# Altium footprint library ebf_f103vet6 motor dev board_PCB封装_AD格式.PcbLib: 46 footprints (part 2 of 3)
Each footprint in its own frame and in the unit in brackets; x right, y up, seen from the top. Pads: shape width x height; smd on the part's side, far side on the other; paste and mask are expansions set on the pad; w line width, h text height; cw(c..) or ccw(c..) is an arc to the next point about the centre after c.
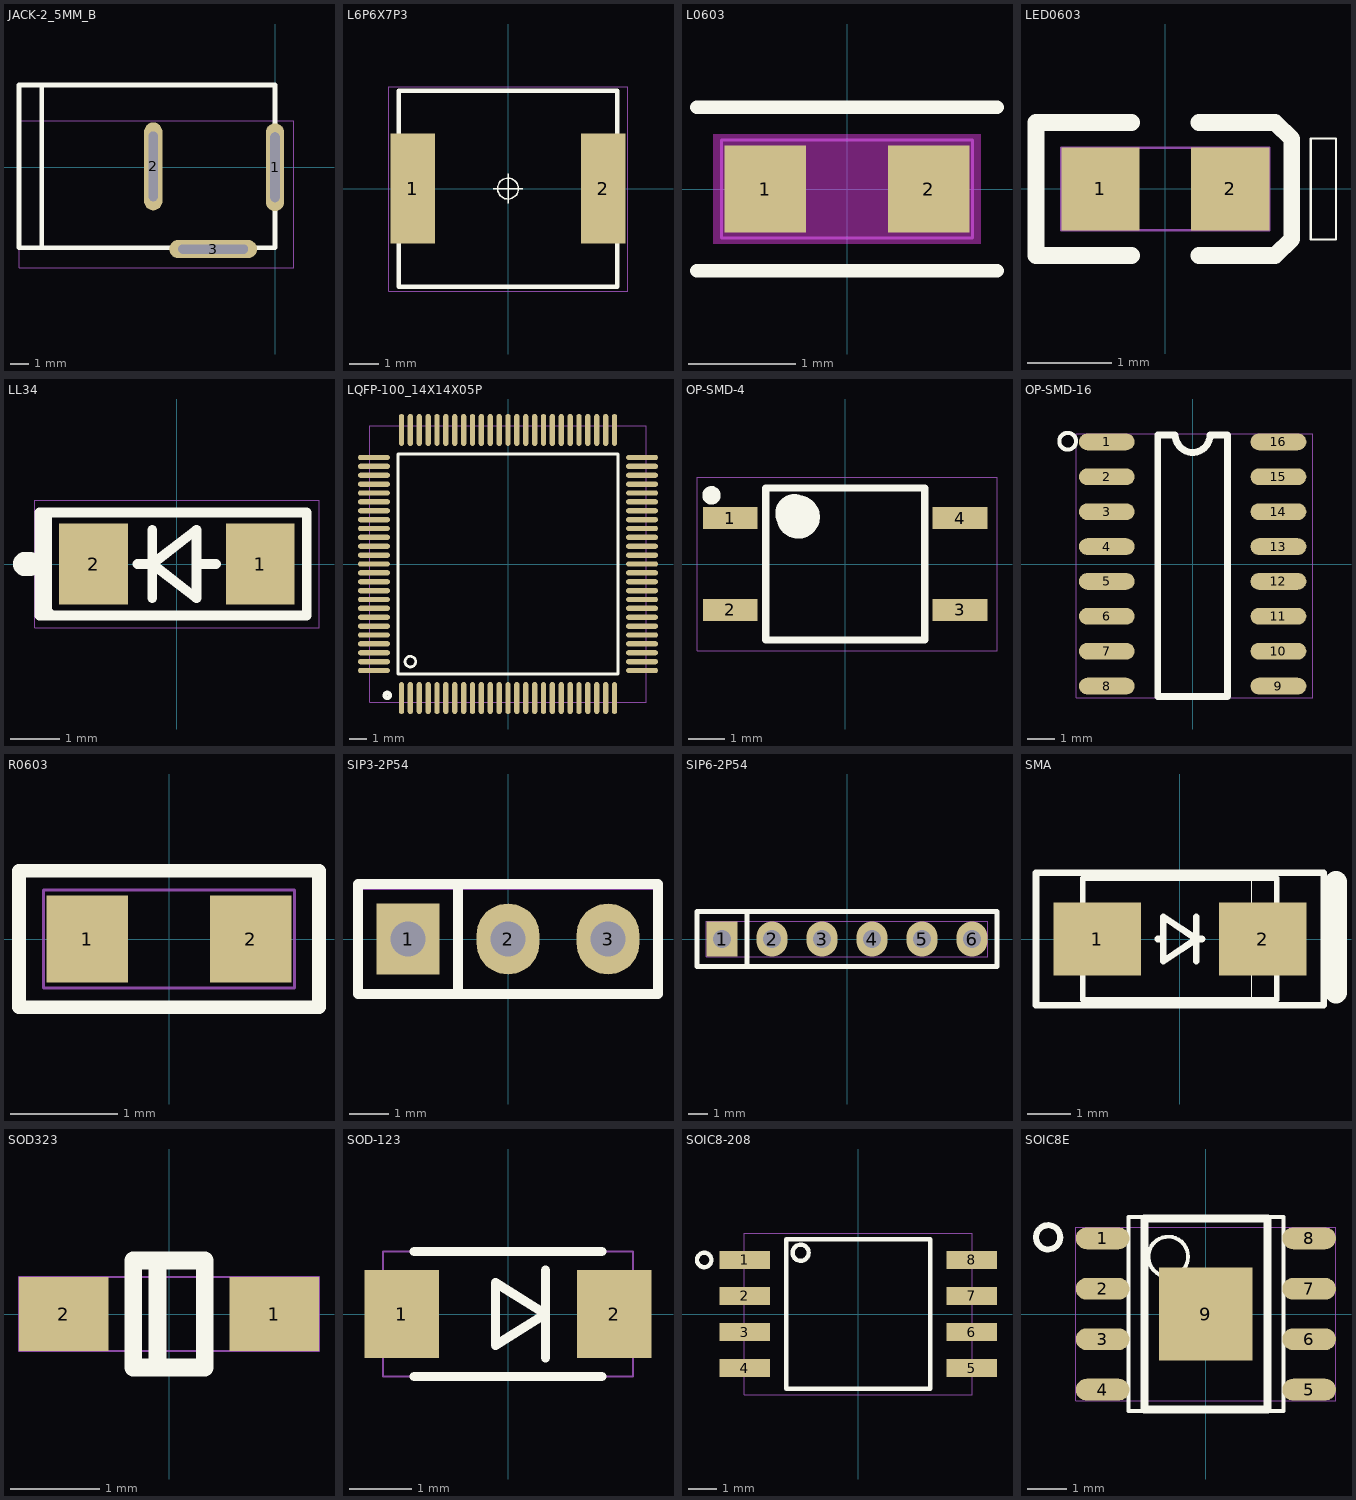
[diagram p1: the footprints below, top view; thin cyan lines are the x and y axes]

## JACK-2_5MM_B [mm]
pads (3):
  oval 1x4.81 / inner oval 1x4.81 / far side oval 2x4.81 hole 0.5 slot 3.81 at 90 deg mask+0.05: 1(0,0) 2(-6.659,0.046)
  oval 4.81x1 / inner oval 4.81x1 / far side oval 4.81x2 hole 0.5 slot 3.81 at 0 deg mask+0.05: 3(-3.383,-4.475)
Top Overlay:
  lines w0.254: -12.755,-4.348 -12.755,4.501 ; -14,-4.399 0,-4.399 0,4.501 -14,4.501 -14,-4.399
Top Assembly:
  text "JACK1" at -2.446,-0.635 h1.27
Mechanical 20:
  lines w0.025: -14,-5.491 1.016,-5.491 1.016,2.535 -14,2.535 -14,-5.491

## L6P6X7P3 [mil]
pads (2):
  rect 59.06x145.67 smd mask+1.97: 1(-126,0) 2(126,0)
Top Overlay:
  circle w1.97: c0,0 r13.78
  lines w1.97: -19.69,0 19.69,0 ; 0,-19.69 0,19.69
  lines w6: -145,-130 145,-130 145,130 -145,130 -145,-130
Top Assembly:
  text "L6" at -32.5,-25 h50
Mechanical 20:
  lines w1: -158,-136 159,-136 159,135 -158,135 -158,-136

## L0603 [mil]
pads (2):
  rect 30x32 smd mask+2.5: 1(-30,0) 2(30,0)
Top Layer keep-out:
  region: -49,-20 -49,20 49,20 49,-20
Top Overlay:
  lines w5: -55,-30 55,-30 ; -55,30 55,30
Top Assembly:
  text "L2" at -33.69,-25 h50
Mechanical 20:
  lines w1: -46,-18 -46,18 46,18 46,-18 -46,-18

## LED0603 [mil]
pads (2):
  rect 36.61x38.58 smd mask+1.97: 1(-30.31,0) 2(30.32,0)
Top Overlay:
  lines w1: 67.91,-23.62 67.91,23.62 79.73,23.62 79.73,-23.62 67.91,-23.62
  lines w7.87: -15.75,-31.1 -60.43,-31.1 -60.43,31.1 -15.75,31.1 ; 15.75,-31.1 51.18,-31.1 59.06,-23.5 59.06,23.5 51.18,31.1 15.75,31.1
Top Assembly:
  text "D6" at -37.73,-25 h50
Mechanical 20:
  lines w1: -48.62,-19.29 48.62,-19.29 48.62,19.29 -48.62,19.29 -48.62,-19.29

## LL34 [mm]
pads (2):
  rect 1.4x1.65 smd: 1(1.7,0) 2(-1.7,0)
Top Overlay:
  circle w0.25: c-3,0 r0.12
  circle w0.25: c-3.1,0 r0.12
  lines w0.025: -0.8,0 -0.5,0 ; -0.5,-0.7 -0.5,0.7 ; 0.4,0 0.8,0 ; -0.5,0 0.4,-0.7 0.4,0.7 -0.5,0 ; -2.65,-1.05 -2.65,1.05 2.65,1.05 2.65,-1.05 -2.65,-1.05
  lines w0.2: -2.6,-1 -2.6,-1.05 -2.8,-1.05 -2.8,1.05 -2.65,1.05 ; -0.8,0 -0.5,0 ; -0.5,-0.7 -0.5,0.7 ; 0.4,0 0.8,0 ; -2.65,1.05 2.65,1.05 2.65,-1.05 -2.65,-1.05 -2.65,1.05 ; -0.5,0 0.4,-0.7 0.4,0.7 -0.5,0
Top Assembly:
  text "D25" at 1.554,0.635 h1.27
Mechanical 20:
  lines w0.025: -2.9,-1.3 2.9,-1.3 2.9,1.3 -2.9,1.3 -2.9,-1.3

## LQFP-100_14X14X05P [mm]
pads (100):
  oval 0.3x1.8 smd mask+0.05: 1(-6,-7.55) 2(-5.5,-7.55) 3(-5,-7.55) 4(-4.5,-7.55) 5(-4,-7.55) 6(-3.5,-7.55) 7(-3,-7.55) 8(-2.5,-7.55) 9(-2,-7.55) 10(-1.5,-7.55) 11(-1,-7.55) 12(-0.5,-7.55) 13(0,-7.55) 14(0.5,-7.55) 15(1,-7.55) 16(1.5,-7.55) 17(2,-7.55) 18(2.5,-7.55) 19(3,-7.55) 20(3.5,-7.55) 21(4,-7.55) 22(4.5,-7.55) 23(5,-7.55) 24(5.5,-7.55) 25(6,-7.55) 51(6,7.55) 52(5.5,7.55) 53(5,7.55) 54(4.5,7.55) 55(4,7.55) 56(3.5,7.55) 57(3,7.55) 58(2.5,7.55) 59(2,7.55) 60(1.5,7.55) 61(1,7.55) 62(0.5,7.55) 63(0,7.55) 64(-0.5,7.55) 65(-1,7.55) 66(-1.5,7.55) 67(-2,7.55) 68(-2.5,7.55) 69(-3,7.55) 70(-3.5,7.55) 71(-4,7.55) 72(-4.5,7.55) 73(-5,7.55) 74(-5.5,7.55) 75(-6,7.55)
  oval 1.8x0.3 smd mask+0.05: 26(7.55,-6) 27(7.55,-5.5) 28(7.55,-5) 29(7.55,-4.5) 30(7.55,-4) 31(7.55,-3.5) 32(7.55,-3) 33(7.55,-2.5) 34(7.55,-2) 35(7.55,-1.5) 36(7.55,-1) 37(7.55,-0.5) 38(7.55,0) 39(7.55,0.5) 40(7.55,1) 41(7.55,1.5) 42(7.55,2) 43(7.55,2.5) 44(7.55,3) 45(7.55,3.5) 46(7.55,4) 47(7.55,4.5) 48(7.55,5) 49(7.55,5.5) 50(7.55,6) 76(-7.55,6) 77(-7.55,5.5) 78(-7.55,5) 79(-7.55,4.5) 80(-7.55,4) 81(-7.55,3.5) 82(-7.55,3) 83(-7.55,2.5) 84(-7.55,2) 85(-7.55,1.5) 86(-7.55,1) 87(-7.55,0.5) 88(-7.55,0) 89(-7.55,-0.5) 90(-7.55,-1) 91(-7.55,-1.5) 92(-7.55,-2) 93(-7.55,-2.5) 94(-7.55,-3) 95(-7.55,-3.5) 96(-7.55,-4) 97(-7.55,-4.5) 98(-7.55,-5) 99(-7.55,-5.5) 100(-7.55,-6)
Top Overlay:
  circle w0.25: c-6.8,-7.4 r0.141
  circle w0.15: c-5.5,-5.5 r0.3
  lines w0.15: -6.2,-6.2 -6.2,6.2 6.2,6.2 6.2,-6.2 -6.2,-6.2
Top Assembly:
  text "U6" at 0.992,0.635 h1.27
Mechanical 20:
  lines w0.025: -7.8,-7.8 7.8,-7.8 7.8,7.8 -7.8,7.8 -7.8,-7.8

## OP-SMD-4 [mil]
pads (4):
  rect 59.84x24.02 smd: 1(-125.2,50) 2(-125.2,-50) 3(125.2,-50) 4(125.2,50)
Top Overlay:
  circle w19.69: c-55.12,55.12 r11.14
  circle w23.62: c-51.18,51.18 r11.81
  circle w9.84: c-145.67,74.8 r5.12
  lines w1: -86.61,-82.68 86.61,-82.68 86.61,82.68 -86.61,82.68 -86.61,-82.68
  lines w7.87: -86.61,-82.68 86.61,-82.68 86.61,82.68 -86.61,82.68 -86.61,-82.68
Top Assembly:
  text "OP5" at 63.8,25 h50
Mechanical 20:
  lines w1: -161.42,-94.49 -161.42,94.49 165.35,94.49 165.35,-94.49 -161.42,-94.49

## OP-SMD-16 [mil]
pads (16):
  oval 80x24 smd mask+2.5: 1(-123,175) 2(-123,125) 3(-123,75) 4(-123,25) 5(-123,-25) 6(-123,-75) 7(-123,-125) 8(-123,-175) 9(123,-175) 10(123,-125) 11(123,-75) 12(123,-25) 13(123,25) 14(123,75) 15(123,125) 16(123,175)
Top Overlay:
  circle w5.98: c-179.02,175.99 r12.02
  lines w10: -50,-190 -50,185 -25,185 ccw(c0,185) 25,185 50,185 50,-190 -50,-190
Top Assembly:
  text "OP9" at -62.61,-25 h50
Mechanical 20:
  lines w1: -167,-192 -167,187 172,187 172,-192 -167,-192

## R0603 [mil]
pads (2):
  rect 30x32 smd mask+2.5: 1(-30,0) 2(30,0)
Top Overlay:
  lines w5: -55,-25 -55,25 55,25 55,-25 -55,-25
Top Assembly:
  text "R94" at 62.37,25 h50
Mechanical 20:
  lines w1: -46,-18 -46,18 46,18 46,-18 -46,-18

## SIP3-2P54 [mil]
pads (3):
  rect 62.99x70.87 hole 35.43 mask+1.97: 1(-100,0)
  oval 62.99x70.87 hole 35.43 mask+1.97: 2(0,0) 3(100,0)
Top Overlay:
  lines w10: -50,-55.12 -50,55.12 ; -150,-55.12 150,-55.12 150,55.12 -150,55.12 -150,-55.12
Top Assembly:
  text "J5" at 35,25 h50
Mechanical 20:
  lines w1: -150,-50 -150,50 150,50 150,-50 -150,-50

## SIP6-2P54 [mil]
pads (6):
  rect 62.99x70.87 hole 35.43 mask+1.97: 1(-250,0)
  oval 62.99x70.87 hole 35.43 mask+1.97: 2(-150,0) 3(-50,0) 4(50,0) 5(150,0) 6(250,0)
Top Overlay:
  lines w10: -200,-55.12 -200,55.12 ; -300,-55.12 -300,55.12 300,55.12 300,-55.12 -300,-55.12
Top Assembly:
  text "J10" at -53.33,-25 h50
Mechanical 20:
  lines w1: -281.5,-35.43 -281.5,35.43 281.5,35.43 281.5,-35.43 -281.5,-35.43

## SMA [mil]
pads (2):
  rect 79x66 smd mask+3: 1(-74.8,0) 2(74.8,0)
Top Overlay:
  lines w1: 65,-55 90,-55 90,55 65,55 65,-55
  lines w5: -87.56,-30 -102.56,-30 -102.56,30 -87.56,30 ; 87.56,-30 102.56,-30 102.56,30 87.56,30 ; -87.56,-55 -87.56,55 87.56,55 87.56,-55 -87.56,-55
  lines w6: -20,0 -15,0 ; 15,-20 15,20 ; 20,0 15,0 ; 15,0 -15,20 -15,-20 15,0 ; -130,-60 -130,60 130,60 130,-60 -130,-60
  lines w19.69: 141.17,-48.28 141.17,51.72
Top Assembly:
  text "D5" at -38.93,-25 h50
Mechanical 20:
  lines w1: -130,-60 -130,60 130,60 130,-60 -130,-60

## SOD323 [mm]
pads (2):
  rect 1x0.83 smd mask+0.05: 1(1.18,0) 2(-1.18,0)
Top Overlay:
  lines w0.2: -0.13,-0.6 -0.13,0.6 ; -0.4,-0.6 -0.4,0.6 0.4,0.6 0.4,-0.6 -0.4,-0.6
Top Assembly:
  text "Z9" at -0.958,-0.635 h1.27
Mechanical 20:
  lines w0.025: -1.68,-0.415 1.68,-0.415 1.68,0.415 -1.68,0.415 -1.68,-0.415

## SOD-123 [mil]
pads (2):
  rect 47.24x55.12 smd mask+1.97: 1(-66.93,0) 2(66.93,0)
Top Overlay:
  lines w5.91: -59.06,-39.37 59.06,-39.37 ; -59.06,39.37 59.06,39.37 ; 23.62,-27.56 23.62,27.56 ; -7.87,-19.69 23.62,0 -7.87,19.69 -7.87,-19.69
Top Assembly:
  text "D17" at 57.25,25 h50
Mechanical 20:
  lines w1: -78.74,-39.37 78.74,-39.37 78.74,39.37 -78.74,39.37 -78.74,-39.37

## SOIC8-208 [mil]
pads (8):
  rect 70x25 smd mask+2: 1(-157.48,75) 2(-157.48,25) 3(-157.48,-25) 4(-157.48,-75) 5(157.48,-75) 6(157.48,-25) 7(157.48,25) 8(157.48,75)
Top Overlay:
  circle w6: c-213.78,75 r10
  circle w6: c-80,85 r11.18
  lines w6: -100,-103.94 -100,103.94 ; -100,-103.94 100,-103.94 ; -100,-103.94 -100,103.94 ; -100,-103.94 100,-103.94 ; -100,103.94 100,103.94 ; -100,103.94 100,103.94 ; 100,-103.94 100,103.94 ; 100,-103.94 100,103.94
Top Assembly:
  text "U7" at -40.23,-25 h50
Mechanical 20:
  lines w1: -158.2,-112 158.2,-112 158.2,112 -158.2,112 -158.2,-112

## SOIC8E [mm]
pads (9):
  oval 1.35x0.55 smd mask+0.05: 1(-2.6,1.905) 2(-2.6,0.635) 3(-2.6,-0.635) 4(-2.6,-1.905) 5(2.6,-1.905) 6(2.6,-0.635) 7(2.6,0.635) 8(2.6,1.905)
  rect 2.35x2.35 smd mask+0.05: 9(0,0)
Top Overlay:
  circle w0.152: c-3.972,1.93 r0.305
  circle w0.1: c-0.95,1.445 r0.5
  lines w0.1: -1.95,-2.445 -1.95,2.445 1.95,2.445 1.95,-2.445 -1.95,-2.445
  lines w0.2: -1.55,-2.4 -1.55,2.4 1.55,2.4 1.55,-2.4 -1.55,-2.4
Top Assembly:
  text "U3" at -1.022,-0.635 h1.27
Mechanical 20:
  lines w0.025: -3.275,-2.18 3.275,-2.18 3.275,2.18 -3.275,2.18 -3.275,-2.18